# EAGLE library part ATSAMX8E (library LITTLEBITS140826)
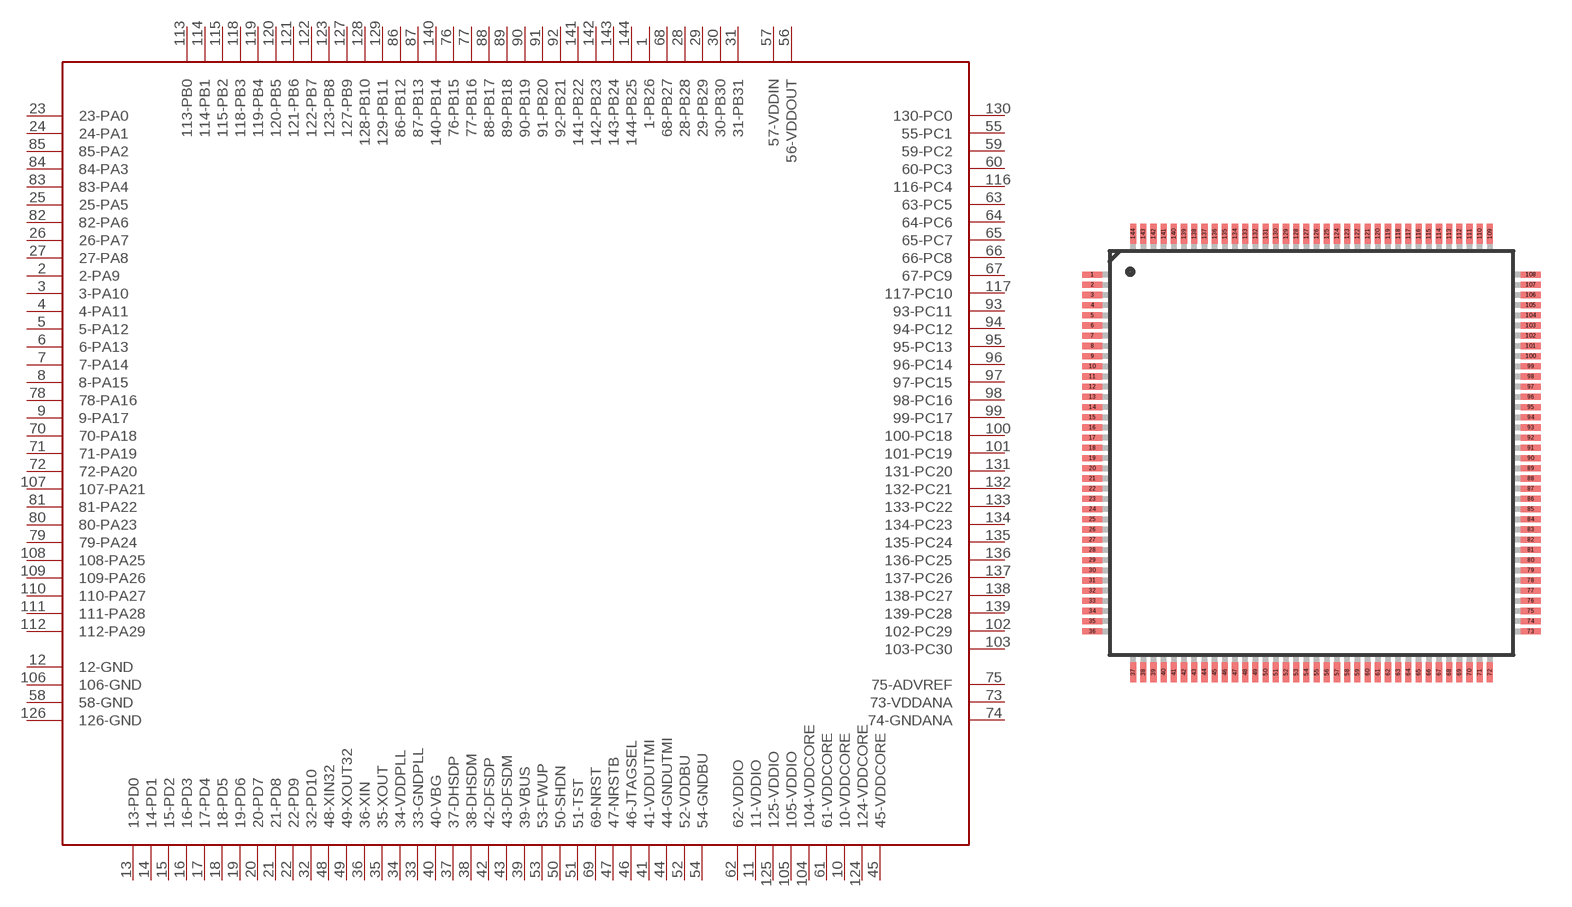
[diagram p58: symbol with the pads of LQFP144; footprint LQFP144]

Designator prefix -

## ATSAMX8E  [LQFP144]
1  1-PB26
2  2-PA9
3  3-PA10
4  4-PA11
5  5-PA12
6  6-PA13
7  7-PA14
8  8-PA15
9  9-PA17
10  10-VDDCORE
11  11-VDDIO
12  12-GND
13  13-PD0
14  14-PD1
15  15-PD2
16  16-PD3
17  17-PD4
18  18-PD5
19  19-PD6
20  20-PD7
21  21-PD8
22  22-PD9
23  23-PA0
24  24-PA1
25  25-PA5
26  26-PA7
27  27-PA8
28  28-PB28
29  29-PB29
30  30-PB30
31  31-PB31
32  32-PD10
33  33-GNDPLL
34  34-VDDPLL
35  35-XOUT
36  36-XIN
37  37-DHSDP
38  38-DHSDM
39  39-VBUS
40  40-VBG
41  41-VDDUTMI
42  42-DFSDP
43  43-DFSDM
44  44-GNDUTMI
45  45-VDDCORE
46  46-JTAGSEL
47  47-NRSTB
48  48-XIN32
49  49-XOUT32
50  50-SHDN
51  51-TST
52  52-VDDBU
53  53-FWUP
54  54-GNDBU
55  55-PC1
56  56-VDDOUT
57  57-VDDIN
58  58-GND
59  59-PC2
60  60-PC3
61  61-VDDCORE
62  62-VDDIO
63  63-PC5
64  64-PC6
65  65-PC7
66  66-PC8
67  67-PC9
68  68-PB27
69  69-NRST
70  70-PA18
71  71-PA19
72  72-PA20
73  73-VDDANA
74  74-GNDANA
75  75-ADVREF
76  76-PB15
77  77-PB16
78  78-PA16
79  79-PA24
80  80-PA23
81  81-PA22
82  82-PA6
83  83-PA4
84  84-PA3
85  85-PA2
86  86-PB12
87  87-PB13
88  88-PB17
89  89-PB18
90  90-PB19
91  91-PB20
92  92-PB21
93  93-PC11
94  94-PC12
95  95-PC13
96  96-PC14
97  97-PC15
98  98-PC16
99  99-PC17
100  100-PC18
101  101-PC19
102  102-PC29
103  103-PC30
104  104-VDDCORE
105  105-VDDIO
106  106-GND
107  107-PA21
108  108-PA25
109  109-PA26
110  110-PA27
111  111-PA28
112  112-PA29
113  113-PB0
114  114-PB1
115  115-PB2
116  116-PC4
117  117-PC10
118  118-PB3
119  119-PB4
120  120-PB5
121  121-PB6
122  122-PB7
123  123-PB8
124  124-VDDCORE
125  125-VDDIO
126  126-GND
127  127-PB9
128  128-PB10
129  129-PB11
130  130-PC0
131  131-PC20
132  132-PC21
133  133-PC22
134  134-PC23
135  135-PC24
136  136-PC25
137  137-PC26
138  138-PC27
139  139-PC28
140  140-PB14
141  141-PB22
142  142-PB23
143  143-PB24
144  144-PB25

## Footprint LQFP144 (pad centres in mm)
smd 1 x 0.3: 1 -10.75,8.75; 2 -10.75,8.25; 3 -10.75,7.75; 4 -10.75,7.25; 5 -10.75,6.75; 6 -10.75,6.25; 7 -10.75,5.75; 8 -10.75,5.25; 9 -10.75,4.75; 10 -10.75,4.25; 11 -10.75,3.75; 12 -10.75,3.25; 13 -10.75,2.75; 14 -10.75,2.25; 15 -10.75,1.75; 16 -10.75,1.25; 17 -10.75,0.75; 18 -10.75,0.25; 19 -10.75,-0.25; 20 -10.75,-0.75; 21 -10.75,-1.25; 22 -10.75,-1.75; 23 -10.75,-2.25; 24 -10.75,-2.75; 25 -10.75,-3.25; 26 -10.75,-3.75; 27 -10.75,-4.25; 28 -10.75,-4.75; 29 -10.75,-5.25; 30 -10.75,-5.75; 31 -10.75,-6.25; 32 -10.75,-6.75; 33 -10.75,-7.25; 34 -10.75,-7.75; 35 -10.75,-8.25; 36 -10.75,-8.75; 73 10.75,-8.75; 74 10.75,-8.25; 75 10.75,-7.75; 76 10.75,-7.25; 77 10.75,-6.75; 78 10.75,-6.25; 79 10.75,-5.75; 80 10.75,-5.25; 81 10.75,-4.75; 82 10.75,-4.25; 83 10.75,-3.75; 84 10.75,-3.25; 85 10.75,-2.75; 86 10.75,-2.25; 87 10.75,-1.75; 88 10.75,-1.25; 89 10.75,-0.75; 90 10.75,-0.25; 91 10.75,0.25; 92 10.75,0.75; 93 10.75,1.25; 94 10.75,1.75; 95 10.75,2.25; 96 10.75,2.75; 97 10.75,3.25; 98 10.75,3.75; 99 10.75,4.25; 100 10.75,4.75; 101 10.75,5.25; 102 10.75,5.75; 103 10.75,6.25; 104 10.75,6.75; 105 10.75,7.25; 106 10.75,7.75; 107 10.75,8.25; 108 10.75,8.75
smd 0.3 x 1: 37 -8.75,-10.75; 38 -8.25,-10.75; 39 -7.75,-10.75; 40 -7.25,-10.75; 41 -6.75,-10.75; 42 -6.25,-10.75; 43 -5.75,-10.75; 44 -5.25,-10.75; 45 -4.75,-10.75; 46 -4.25,-10.75; 47 -3.75,-10.75; 48 -3.25,-10.75; 49 -2.75,-10.75; 50 -2.25,-10.75; 51 -1.75,-10.75; 52 -1.25,-10.75; 53 -0.75,-10.75; 54 -0.25,-10.75; 55 0.25,-10.75; 56 0.75,-10.75; 57 1.25,-10.75; 58 1.75,-10.75; 59 2.25,-10.75; 60 2.75,-10.75; 61 3.25,-10.75; 62 3.75,-10.75; 63 4.25,-10.75; 64 4.75,-10.75; 65 5.25,-10.75; 66 5.75,-10.75; 67 6.25,-10.75; 68 6.75,-10.75; 69 7.25,-10.75; 70 7.75,-10.75; 71 8.25,-10.75; 72 8.75,-10.75; 109 8.75,10.75; 110 8.25,10.75; 111 7.75,10.75; 112 7.25,10.75; 113 6.75,10.75; 114 6.25,10.75; 115 5.75,10.75; 116 5.25,10.75; 117 4.75,10.75; 118 4.25,10.75; 119 3.75,10.75; 120 3.25,10.75; 121 2.75,10.75; 122 2.25,10.75; 123 1.75,10.75; 124 1.25,10.75; 125 0.75,10.75; 126 0.25,10.75; 127 -0.25,10.75; 128 -0.75,10.75; 129 -1.25,10.75; 130 -1.75,10.75; 131 -2.25,10.75; 132 -2.75,10.75; 133 -3.25,10.75; 134 -3.75,10.75; 135 -4.25,10.75; 136 -4.75,10.75; 137 -5.25,10.75; 138 -5.75,10.75; 139 -6.25,10.75; 140 -6.75,10.75; 141 -7.25,10.75; 142 -7.75,10.75; 143 -8.25,10.75; 144 -8.75,10.75